# EAGLE library part MAX44009 (library cTechnologies_integratedCircuits)
Industry’s Lowest-Power Ambient Light Sensor with ADC The MAX44009 ambient light sensor features an I2C S Wide 0.045 Lux to 188,000 Lux Range digital output that is ideal for a number of portable appli- cations such as smartphones, notebooks, and industrial sensors. At less than 1μA operating current, it is the lowest power ambient light sensor in the industry and features an ultra-wide 22-bit dynamic range from 0.045 lux to 188,000 lux.
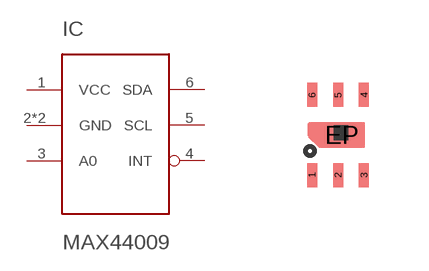
[diagram p0: symbol with the pads of UTDFN-OPTO; footprint UTDFN-OPTO]

Designator prefix IC

## MAX44009  [UTDFN-OPTO]
1  VCC
2  GND
3  A0
4  INT
5  SCL
6  SDA
EP  GND

## Footprint UTDFN-OPTO (pad centres in mm)
smd 0.25 x 0.6: 1 -0.65,-1; 2 0,-1; 3 0.65,-1; 4 0.65,1; 5 0,1; 6 -0.65,1
smd 1.15 x 0.65: EP 0.1,0